# Altium footprint library cape connector.PcbLib: 1 footprints
Each footprint in its own frame and in the unit in brackets; x right, y up, seen from the top. Pads: shape width x height; smd on the part's side, far side on the other; paste and mask are expansions set on the pad; w line width, h text height; cw(c..) or ccw(c..) is an arc to the next point about the centre after c.
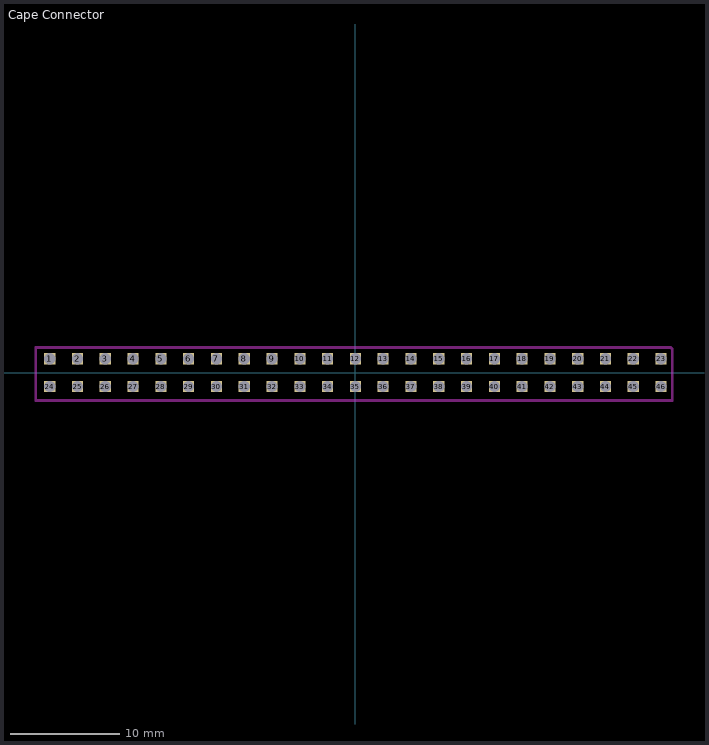
[diagram p0: the footprint, top view; thin cyan lines are the x and y axes]

## Cape Connector [mil] "SSHQ-123-D-06-G-LF"
pads (46):
  rect 40x40 hole 40 square: 1(-1100,50) 2(-1000,50) 3(-900,50) 4(-800,50) 5(-700,50) 6(-600,50) 7(-500,50) 8(-400,50) 9(-300,50) 10(-200,50) 11(-100,50) 12(0,50) 13(100,50) 14(200,50) 15(300,50) 16(400,50) 17(500,50) 18(600,50) 19(700,50) 20(800,50) 21(900,50) 22(1000,50) 23(1100,50) 24(-1100,-50) 25(-1000,-50) 26(-900,-50) 27(-800,-50) 28(-700,-50) 29(-600,-50) 30(-500,-50) 31(-400,-50) 32(-300,-50) 33(-200,-50) 34(-100,-50) 35(0,-50) 36(100,-50) 37(200,-50) 38(300,-50) 39(400,-50) 40(500,-50) 41(600,-50) 42(700,-50) 43(800,-50) 44(900,-50) 45(1000,-50) 46(1100,-50)
Top Layer keep-out:
  lines w10: -1150,-100 1140,-100 1140,85 1135,90 -1130,90 -1150,90 -1150,-100